# Altium footprint library PcbLib1.PcbLib: 29 footprints (part 1 of 2)
Each footprint in its own frame and in the unit in brackets; x right, y up, seen from the top. Pads: shape width x height; smd on the part's side, far side on the other; paste and mask are expansions set on the pad; w line width, h text height; cw(c..) or ccw(c..) is an arc to the next point about the centre after c.
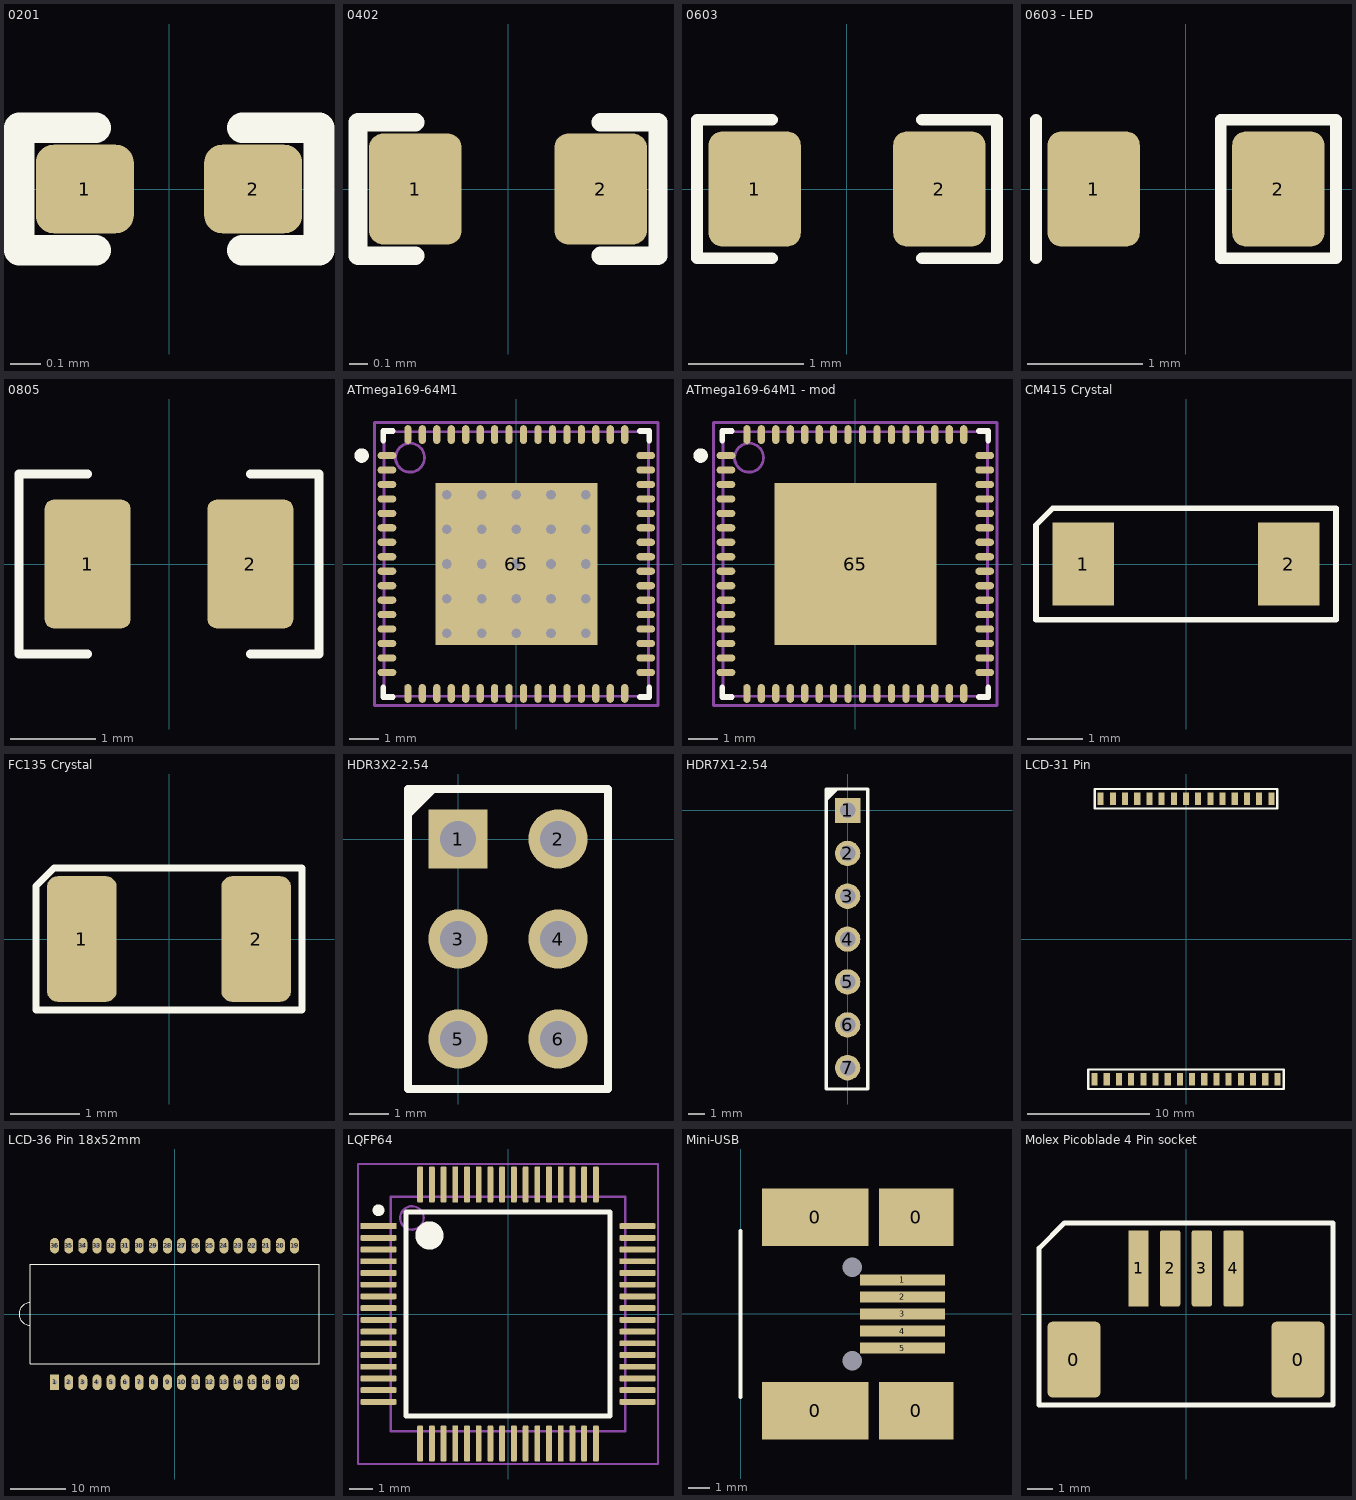
[diagram p0: the footprints below, top view; thin cyan lines are the x and y axes]

## 0201 [mm] "Chip Capacitor; Body 0.5 x 0.25 mm (LxW typ)"
height 0.1
pads (2):
  rrect40% 0.32x0.29 smd mask+0.07: 1(-0.275,0) 2(0.275,0)
Top Overlay:
  lines w0.1: -0.24,-0.2 -0.49,-0.2 -0.49,0.2 -0.24,0.2 ; 0.24,-0.2 0.49,-0.2 0.49,0.2 0.24,0.2
Top Solder:
  rectangle: -0.275,-0.22 0.27,0.22

## 0402 [mm] "Chip Capacitor; Body 1.0 x 0.5 mm (LxW typ)"
height 0.2
pads (2):
  rrect30% 0.5x0.6 smd: 1(-0.5,0) 2(0.5,0)
Top Overlay:
  lines w0.1: -0.5,-0.36 -0.81,-0.36 -0.81,0.36 -0.5,0.36 ; 0.5,-0.36 0.81,-0.36 0.81,0.36 0.5,0.36

## 0603 [mm] "Chip Capacitor; Body 1.6 x 0.8 mm (LxW typ)"
height 0.85
pads (2):
  rrect30% 0.8x1 smd: 1(-0.8,0) 2(0.8,0)
Top Overlay:
  lines w0.1: -0.65,-0.6 -1.3,-0.6 -1.3,0.6 -0.65,0.6 ; 0.65,-0.6 1.3,-0.6 1.3,0.6 0.65,0.6

## 0603 - LED [mm] "LED Body 1.6 x 0.8 mm (LxW typ)"
height 0.85
pads (2):
  rrect30% 0.8x1 smd: 1(-0.8,0) 2(0.8,0)
Top Overlay:
  lines w0.1: -1.3,-0.6 -1.3,0.6 ; 0.65,-0.6 1.3,-0.6 1.3,0.6 0.65,0.6 ; 0.9,-0.6 0.3,-0.6 0.3,0.6 0.9,0.6

## 0805 [mm] "Chip Capacitor; Body 2.0 x 1.2 mm (LxW typ)"
height 1.1
pads (2):
  rrect20% 1x1.5 smd: 1(-0.95,0) 2(0.95,0)
Top Overlay:
  lines w0.1: -0.95,-1.05 -1.75,-1.05 -1.75,1.05 -0.95,1.05 ; 0.95,-1.05 1.75,-1.05 1.75,1.05 0.95,1.05

## ATmega169-64M1 [mm] "QFN, 64-Leads, Body 9x9mm, Pitch 0.5mm, IPC High Density"
height 1
pads (65):
  oval 0.65x0.25 smd: 1(-4.475,3.75) 2(-4.475,3.25) 3(-4.475,2.75) 4(-4.475,2.25) 5(-4.475,1.75) 6(-4.475,1.25) 7(-4.475,0.75) 8(-4.475,0.25) 9(-4.475,-0.25) 10(-4.475,-0.75) 11(-4.475,-1.25) 12(-4.475,-1.75) 13(-4.475,-2.25) 14(-4.475,-2.75) 15(-4.475,-3.25) 16(-4.475,-3.75) 33(4.475,-3.75) 34(4.475,-3.25) 35(4.475,-2.75) 36(4.475,-2.25) 37(4.475,-1.75) 38(4.475,-1.25) 39(4.475,-0.75) 40(4.475,-0.25) 41(4.475,0.25) 42(4.475,0.75) 43(4.475,1.25) 44(4.475,1.75) 45(4.475,2.25) 46(4.475,2.75) 47(4.475,3.25) 48(4.475,3.75)
  oval 0.25x0.65 smd: 17(-3.75,-4.475) 18(-3.25,-4.475) 19(-2.75,-4.475) 20(-2.25,-4.475) 21(-1.75,-4.475) 22(-1.25,-4.475) 23(-0.75,-4.475) 24(-0.25,-4.475) 25(0.25,-4.475) 26(0.75,-4.475) 27(1.25,-4.475) 28(1.75,-4.475) 29(2.25,-4.475) 30(2.75,-4.475) 31(3.25,-4.475) 32(3.75,-4.475) 49(3.75,4.475) 50(3.25,4.475) 51(2.75,4.475) 52(2.25,4.475) 53(1.75,4.475) 54(1.25,4.475) 55(0.75,4.475) 56(0.25,4.475) 57(-0.25,4.475) 58(-0.75,4.475) 59(-1.25,4.475) 60(-1.75,4.475) 61(-2.25,4.475) 62(-2.75,4.475) 63(-3.25,4.475) 64(-3.75,4.475)
  rect 5.6x5.6 smd: 65(0,0)
via -2.4,2.4 diameter 0.66 hole 0.33
via -1.2,2.4 diameter 0.66 hole 0.33
via 0,2.4 diameter 0.66 hole 0.33
via 1.2,2.4 diameter 0.66 hole 0.33
via 2.4,2.4 diameter 0.66 hole 0.33
via -2.4,1.2 diameter 0.66 hole 0.33
via -1.2,1.2 diameter 0.66 hole 0.33
via 0,1.2 diameter 0.66 hole 0.33
via 1.2,1.2 diameter 0.66 hole 0.33
via 2.4,1.2 diameter 0.66 hole 0.33
via -2.4,0 diameter 0.66 hole 0.33
via -1.2,0 diameter 0.66 hole 0.33
via 0,0 diameter 0.66 hole 0.33
via 1.2,0 diameter 0.66 hole 0.33
via 2.4,0 diameter 0.66 hole 0.33
via -2.4,-1.2 diameter 0.66 hole 0.33
via -1.2,-1.2 diameter 0.66 hole 0.33
via 0,-1.2 diameter 0.66 hole 0.33
via 1.2,-1.2 diameter 0.66 hole 0.33
via 2.4,-1.2 diameter 0.66 hole 0.33
via -2.4,-2.4 diameter 0.66 hole 0.33
via -1.2,-2.4 diameter 0.66 hole 0.33
via 0,-2.4 diameter 0.66 hole 0.33
via 1.2,-2.4 diameter 0.66 hole 0.33
via 2.4,-2.4 diameter 0.66 hole 0.33
Top Overlay:
  circle w0.25: c-5.35,3.75 r0.125
  lines w0.2: -4.6,-4.275 -4.6,-4.6 -4.275,-4.6 ; -4.6,4.275 -4.6,4.6 -4.275,4.6 ; 4.275,-4.6 4.6,-4.6 4.6,-4.275 ; 4.275,4.6 4.6,4.6 4.6,4.275
Mechanical 13:
  circle w0.1: c-3.675,3.675 r0.5
  lines w0.1: -4.575,-4.575 -4.575,4.575 4.575,4.575 4.575,-4.575 -4.575,-4.575
Mechanical 15:
  lines w0.1: -0.5,0 0.5,0 ; 0,-0.5 0,0.5 ; -4.9,-4.9 -4.9,4.9 4.9,4.9 4.9,-4.9 -4.9,-4.9
3D body: height 1, standoff 0, extent -4.575,-4.575 4.575,4.575

## ATmega169-64M1 - mod [mm] "QFN, 64-Leads, Body 9x9mm, Pitch 0.5mm, IPC High Density"
height 1
pads (65):
  oval 0.65x0.25 smd: 1(-4.475,3.75) 2(-4.475,3.25) 3(-4.475,2.75) 4(-4.475,2.25) 5(-4.475,1.75) 6(-4.475,1.25) 7(-4.475,0.75) 8(-4.475,0.25) 9(-4.475,-0.25) 10(-4.475,-0.75) 11(-4.475,-1.25) 12(-4.475,-1.75) 13(-4.475,-2.25) 14(-4.475,-2.75) 15(-4.475,-3.25) 16(-4.475,-3.75) 33(4.475,-3.75) 34(4.475,-3.25) 35(4.475,-2.75) 36(4.475,-2.25) 37(4.475,-1.75) 38(4.475,-1.25) 39(4.475,-0.75) 40(4.475,-0.25) 41(4.475,0.25) 42(4.475,0.75) 43(4.475,1.25) 44(4.475,1.75) 45(4.475,2.25) 46(4.475,2.75) 47(4.475,3.25) 48(4.475,3.75)
  oval 0.25x0.65 smd: 17(-3.75,-4.475) 18(-3.25,-4.475) 19(-2.75,-4.475) 20(-2.25,-4.475) 21(-1.75,-4.475) 22(-1.25,-4.475) 23(-0.75,-4.475) 24(-0.25,-4.475) 25(0.25,-4.475) 26(0.75,-4.475) 27(1.25,-4.475) 28(1.75,-4.475) 29(2.25,-4.475) 30(2.75,-4.475) 31(3.25,-4.475) 32(3.75,-4.475) 49(3.75,4.475) 50(3.25,4.475) 51(2.75,4.475) 52(2.25,4.475) 53(1.75,4.475) 54(1.25,4.475) 55(0.75,4.475) 56(0.25,4.475) 57(-0.25,4.475) 58(-0.75,4.475) 59(-1.25,4.475) 60(-1.75,4.475) 61(-2.25,4.475) 62(-2.75,4.475) 63(-3.25,4.475) 64(-3.75,4.475)
  rect 5.6x5.6 smd paste-5 mask-5: 65(0,0)
Top Overlay:
  circle w0.25: c-5.35,3.75 r0.125
  lines w0.2: -4.6,-4.275 -4.6,-4.6 -4.275,-4.6 ; -4.6,4.275 -4.6,4.6 -4.275,4.6 ; 4.275,-4.6 4.6,-4.6 4.6,-4.275 ; 4.275,4.6 4.6,4.6 4.6,4.275
Top Paste:
  lines w0.8: -2,0 2,0 ; 0,-2 0,2
Top Solder:
  rectangle: -1.27,-3.175 1.27,3.175
  region: 3.175,-1.27 3.175,1.27 -3.175,1.27 -3.175,-1.27
Mechanical 13:
  circle w0.1: c-3.675,3.675 r0.5
  lines w0.1: -4.575,-4.575 4.575,-4.575 4.575,4.575 -4.575,4.575 -4.575,-4.575
Mechanical 15:
  lines w0.1: -0.5,0 0.5,0 ; 0,-0.5 0,0.5 ; -4.9,-4.9 4.9,-4.9 4.9,4.9 -4.9,4.9 -4.9,-4.9
3D body: height 1, standoff 0, extent -4.575,-4.575 4.575,4.575

## CM415 Crystal [mm] "32.768 kHz Citizen Crystal"
height 1
pads (2):
  rect 1.1x1.5 smd: 1(-1.85,0) 2(1.85,0)
Top Overlay:
  lines w0.1: -2.7,-1 -2.7,0.7 -2.4,1 2.7,1 2.7,-1 -2.7,-1

## FC135 Crystal [mm] "32.768 kHz Epson-Toyocom Crystal"
height 1
pads (2):
  rrect30% 1x1.8 smd: 1(-1.25,0) 2(1.25,0)
Top Overlay:
  lines w0.1: 1.905,-1.016 -1.905,-1.016 -1.905,0.762 -1.651,1.016 1.905,1.016 1.905,-1

## HDR3X2-2.54 [mm] "Connector; Header; 6 Position"
pads (6):
  rect 1.5x1.5 hole 0.914: 1(0,0)
  round 1.5 hole 0.914: 2(2.54,0) 3(0,-2.54) 4(2.54,-2.54) 5(0,-5.08) 6(2.54,-5.08)
Top Overlay:
  lines w0.2: -1.27,0.635 -0.635,1.27 -0.889,1.27 -1.27,0.889 -1.27,1.016 -1.016,1.27 ; -1.27,-6.35 3.81,-6.35 3.81,1.27 -1.27,1.27 -1.27,-6.35

## HDR7X1-2.54 [mm] "Connector; Header; 7 Position 1 row"
pads (7):
  rect 1.5x1.5 hole 0.914: 1(0,0)
  round 1.5 hole 0.914: 2(0,-2.54) 3(0,-5.08) 4(0,-7.62) 5(0,-10.16) 6(0,-12.7) 7(0,-15.24)
Top Overlay:
  lines w0.2: -1.27,0.635 -0.635,1.27 -0.889,1.27 -1.27,0.889 -1.27,1.016 -1.016,1.27 ; -1.27,-16.5 -1.27,1.27 1.2,1.27 1.2,-16.5 -1.27,-16.5

## LCD-31 Pin [mm] "LCD Wristwatch 5x26"
height 4
pads (31):
  rect 0.5x1 smd paste-0.5: 0(-7.5,-11.5) 1(-6.5,-11.5) 2(-5.5,-11.5) 3(-4.5,-11.5) 4(-3.5,-11.5) 5(-2.5,-11.5) 6(-1.5,-11.5) 7(-0.5,-11.5) 8(0.5,-11.5) 9(1.5,-11.5) 10(2.5,-11.5) 11(3.5,-11.5) 12(4.5,-11.5) 13(5.5,-11.5) 14(6.5,-11.5) 15(7.5,-11.5) 16(7,11.5) 17(6,11.5) 18(5,11.5) 19(4,11.5) 20(3,11.5) 21(2,11.5) 22(1,11.5) 23(0,11.5) 24(-1,11.5) 25(-2,11.5) 26(-3,11.5) 27(-4,11.5) 28(-5,11.5) 29(-6,11.5) 30(-7,11.5)
Top Overlay:
  lines w0.2: -8,-12.3 8,-12.3 8,-10.7 -8,-10.7 -8,-12.3 ; -7.5,10.7 -7.5,12.3 7.5,12.3 7.5,10.7 -7.5,10.7

## LCD-36 Pin 18x52mm [mm] "8 Character LCD 1/4 bias"
height 4
pads (36):
  rect 1.6x2.8 hole 0.8: 1(-21.59,-12.3)
  oval 1.6x2.8 hole 0.8: 2(-19.05,-12.3) 3(-16.51,-12.3) 4(-13.97,-12.3) 5(-11.43,-12.3) 6(-8.89,-12.3) 7(-6.35,-12.3) 8(-3.81,-12.3) 9(-1.27,-12.3) 10(1.27,-12.3) 11(3.81,-12.3) 12(6.35,-12.3) 13(8.89,-12.3) 14(11.43,-12.3) 15(13.97,-12.3) 16(16.51,-12.3) 17(19.05,-12.3) 18(21.59,-12.3) 19(21.59,12.3) 20(19.05,12.3) 21(16.51,12.3) 22(13.97,12.3) 23(11.43,12.3) 24(8.89,12.3) 25(6.35,12.3) 26(3.81,12.3) 27(1.27,12.3) 28(-1.27,12.3) 29(-3.81,12.3) 30(-6.35,12.3) 31(-8.89,12.3) 32(-11.43,12.3) 33(-13.97,12.3) 34(-16.51,12.3) 35(-19.05,12.3) 36(-21.59,12.3)
Top Overlay:
  lines w0.1: -26,-2 cw(c-26,0) -26,2
  lines w0.2: -26,-8.95 -26,8.95 26,8.95 26,-8.95 -26,-8.95

## LQFP64 [mm] "Thin QFP, 64-Leads, Body 10x10mm, Pitch 0.5mm, IPC High Density"
height 1.6
pads (64):
  rect 1.55x0.25 smd: 1(-5.525,3.75)
  rrect50% 1.55x0.25 smd: 2(-5.525,3.25) 3(-5.525,2.75) 4(-5.525,2.25) 5(-5.525,1.75) 6(-5.525,1.25) 7(-5.525,0.75) 8(-5.525,0.25) 9(-5.525,-0.25) 10(-5.525,-0.75) 11(-5.525,-1.25) 12(-5.525,-1.75) 13(-5.525,-2.25) 14(-5.525,-2.75) 15(-5.525,-3.25) 16(-5.525,-3.75) 33(5.525,-3.75) 34(5.525,-3.25) 35(5.525,-2.75) 36(5.525,-2.25) 37(5.525,-1.75) 38(5.525,-1.25) 39(5.525,-0.75) 40(5.525,-0.25) 41(5.525,0.25) 42(5.525,0.75) 43(5.525,1.25) 44(5.525,1.75) 45(5.525,2.25) 46(5.525,2.75) 47(5.525,3.25) 48(5.525,3.75)
  rrect50% 0.25x1.55 smd: 17(-3.75,-5.525) 18(-3.25,-5.525) 19(-2.75,-5.525) 20(-2.25,-5.525) 21(-1.75,-5.525) 22(-1.25,-5.525) 23(-0.75,-5.525) 24(-0.25,-5.525) 25(0.25,-5.525) 26(0.75,-5.525) 27(1.25,-5.525) 28(1.75,-5.525) 29(2.25,-5.525) 30(2.75,-5.525) 31(3.25,-5.525) 32(3.75,-5.525) 49(3.75,5.525) 50(3.25,5.525) 51(2.75,5.525) 52(2.25,5.525) 53(1.75,5.525) 54(1.25,5.525) 55(0.75,5.525) 56(0.25,5.525) 57(-0.25,5.525) 58(-0.75,5.525) 59(-1.25,5.525) 60(-1.75,5.525) 61(-2.25,5.525) 62(-2.75,5.525) 63(-3.25,5.525) 64(-3.75,5.525)
Top Overlay:
  circle w0.25: c-5.525,4.425 r0.125
  circle w0.6: c-3.35,3.35 r0.3
  lines w0.2: -4.35,-4.35 -4.35,4.35 4.35,4.35 4.35,-4.35 -4.35,-4.35
Mechanical 13:
  circle w0.1: c-4.1,4.1 r0.5
  lines w0.1: -5,-5 -5,5 5,5 5,-5 -5,-5
Mechanical 15:
  lines w0.1: -6.4,-6.4 6.4,-6.4 6.4,6.4 -6.4,6.4 -6.4,-6.4
3D body: height 1.6, standoff 0, extent -5,-5 5,5

## Mini-USB [mm] "Suits: Hirose UX60SA-MB-5ST, TYCO 1734035-2, Molex 54819-0572"
height 5
pads (11):
  rect 5x2.7 smd: 0(3.5,-4.55) 0(3.5,4.55)
  rect 0x0 hole 0.9 unplated: 0(5.25,-2.2) 0(5.25,2.2)
  rect 3.5x2.7 smd: 0(8.25,-4.55) 0(8.25,4.55)
  rect 4x0.5 smd: 1(7.6,1.6) 2(7.6,0.8) 3(7.6,0) 4(7.6,-0.8) 5(7.6,-1.6)
Top Overlay:
  lines w0.2: 0,-3.9 0,3.9 0,-3.9

## Molex Picoblade 4 Pin socket [mm] "Connector; Header; 6 Position"
pads (6):
  rrect20% 2.1x3 smd: 0(-4.425,-1.8) 0(4.425,-1.8)
  rect 0.8x3 smd: 1(-1.875,1.8)
  rrect20% 0.8x3 smd: 2(-0.625,1.8) 3(0.625,1.8) 4(1.875,1.8)
Top Overlay:
  lines w0.2: -5.8,-3.6 5.8,-3.6 5.8,3.6 -4.8,3.6 -5.8,2.6 -5.8,-3.6